# Altium schematic symbol library STM32G070RBT6.SchLib: 1 symbol
Pins are listed as number, name and electrical type; pins without a type are passive.

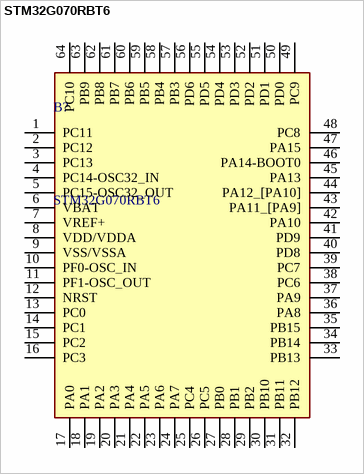
[diagram p0: symbol STM32G070RBT6]

## STM32G070RBT6
designator B?
ARM Microcontrollers - MCU Arm Cortex -M0+ 32-bit MCU, 128 KB Flash, 36 KB RAM, 4x USART, timers, ADC, comm. I/Fs, 2.0-3.6V; Manufacturer_Name: STMicroelectronics; Geometry.Height: 1.6mm; Mouser Part Number: 511-STM32G070RBT6; Mouser Price/Stock: https://www.mouser.co.uk/ProductDetail/STMicroelectronics/STM32G070RBT6?qs=l7cgNqFNU1g2MF3TqxTHUQ%3D%3D; Manufacturer_Part_Number: STM32G070RBT6; Datasheet Link: https://componentsearchengine.com/Datasheets/1/STM32G070RBT6.pdf
footprint QFP50P1200X1200X160-64N
pins: 1 PC11, 2 PC12, 3 PC13, 4 PC14-OSC32_IN, 5 PC15-OSC32_OUT, 6 VBAT, 7 VREF+, 8 VDD/VDDA, 9 VSS/VSSA, 10 PF0-OSC_IN, 11 PF1-OSC_OUT, 12 NRST, 13 PC0, 14 PC1, 15 PC2, 16 PC3, 17 PA0, 18 PA1, 19 PA2, 20 PA3, 21 PA4, 22 PA5, 23 PA6, 24 PA7, 25 PC4, 26 PC5, 27 PB0, 28 PB1, 29 PB2, 30 PB10, 31 PB11, 32 PB12, 33 PB13, 34 PB14, 35 PB15, 36 PA8, 37 PA9, 38 PC6, 39 PC7, 40 PD8, 41 PD9, 42 PA10, 43 PA11_[PA9], 44 PA12_[PA10], 45 PA13, 46 PA14-BOOT0, 47 PA15, 48 PC8, 49 PC9, 50 PD0, 51 PD1, 52 PD2, 53 PD3, 54 PD4, 55 PD5, 56 PD6, 57 PB3, 58 PB4, 59 PB5, 60 PB6, 61 PB7, 62 PB8, 63 PB9, 64 PC10